# EAGLE library part C3_FTDI_CONN (library TrueC3_FTDIlbr)
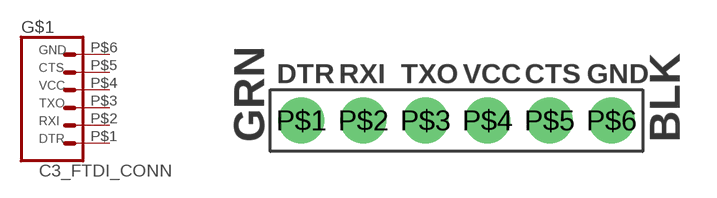
[diagram p0: symbol with the pads of 6_PIN_SERIAL_TARGET_SIDE_W_SILK; footprint 6_PIN_SERIAL_TARGET_SIDE_W_SILK]

Designator prefix -

## C3_FTDI_CONN  [6_PIN_SERIAL_TARGET_SIDE_W_SILK]
P$1  DTR  pas
P$2  RXI  pas
P$3  TXO  pas
P$4  VCC  pas
P$5  CTS  pas
P$6  GND  pas

## Footprint 6_PIN_SERIAL_TARGET_SIDE_W_SILK (pad centres in mm)
6 pin Serial Target - Right Angle SMT with Silk Package for devices meant to mate to an FTDI connector. Specifications: Pin count:6 Pin pitch: 0.1" Example device(s): 6_Pin_Serial_Target
drill 1.016 pad 1.88: P$1 -6.35,0; P$2 -3.81,0; P$3 -1.27,0; P$4 1.27,0; P$5 3.81,0; P$6 6.35,0